# Altium schematic symbol library TP35.Schlib: 1 symbol
Pins are listed as number, name and electrical type; pins without a type are passive.

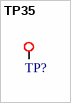
[diagram p0: symbol TP35]

## TP35
designator TP?, comment TESTPOINT  (value not drawn)  (no BOM)
0.035" Round Testpoing
pins: 1